# Altium footprint library Encoder.PcbLib: 2 footprints
Each footprint in its own frame and in the unit in brackets; x right, y up, seen from the top. Pads: shape width x height; smd on the part's side, far side on the other; paste and mask are expansions set on the pad; w line width, h text height; cw(c..) or ccw(c..) is an arc to the next point about the centre after c.
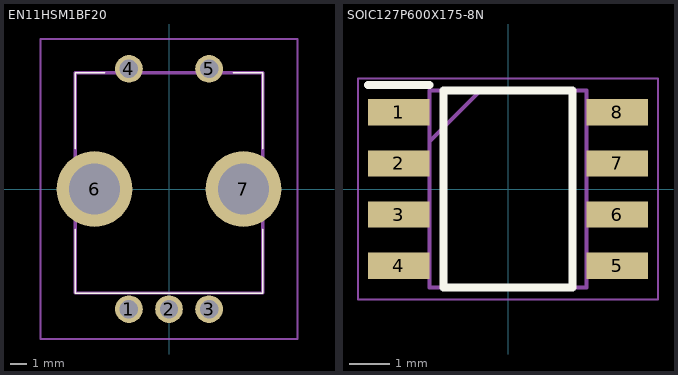
[diagram p0: the footprints below, top view; thin cyan lines are the x and y axes]

## EN11HSM1BF20 [mm]
pads (7):
  round 1.725 hole 1.15: 1(-2.5,-7.5) 2(0,-7.5) 3(2.5,-7.5) 4(-2.5,7.5) 5(2.5,7.5)
  round 4.743 hole 3.162: 6(-4.65,0) 7(4.65,0)
Top Overlay:
  lines w0.1: -5.85,-2.5 -5.85,-6.5 5.85,-6.5 5.85,-2.5 ; -5.85,2.5 -5.85,7.25 -4,7.25 ; 4,7.25 5.85,7.25 5.85,2.5
Mechanical 13:
  lines w0.2: -5.85,-6.5 -5.85,7.25 5.85,7.25 5.85,-6.5 -5.85,-6.5
Mechanical 15:
  lines w0.1: -8.022,-9.363 -8.022,9.363 8.022,9.363 8.022,-9.363 -8.022,-9.363

## SOIC127P600X175-8N [mm]
pads (8):
  rect 1.525x0.65 smd: 1(-2.712,1.905) 2(-2.712,0.635) 3(-2.712,-0.635) 4(-2.712,-1.905) 5(2.712,-1.905) 6(2.712,-0.635) 7(2.712,0.635) 8(2.712,1.905)
Top Overlay:
  lines w0.2: -3.475,2.58 -1.95,2.58 ; -1.6,-2.45 -1.6,2.45 1.6,2.45 1.6,-2.45 -1.6,-2.45
Mechanical 13:
  lines w0.1: -1.95,1.18 -0.68,2.45 ; -1.95,-2.45 -1.95,2.45 1.95,2.45 1.95,-2.45 -1.95,-2.45
Mechanical 15:
  lines w0.05: -3.725,-2.75 -3.725,2.75 3.725,2.75 3.725,-2.75 -3.725,-2.75
3D body "NE555DR.stp": height 1.75, standoff 0, extent -3,-2.45 3,2.45